# Altium schematic symbol library mpcie.SchLib: 3 symbols
Pins are listed as number, name and electrical type; pins without a type are passive.

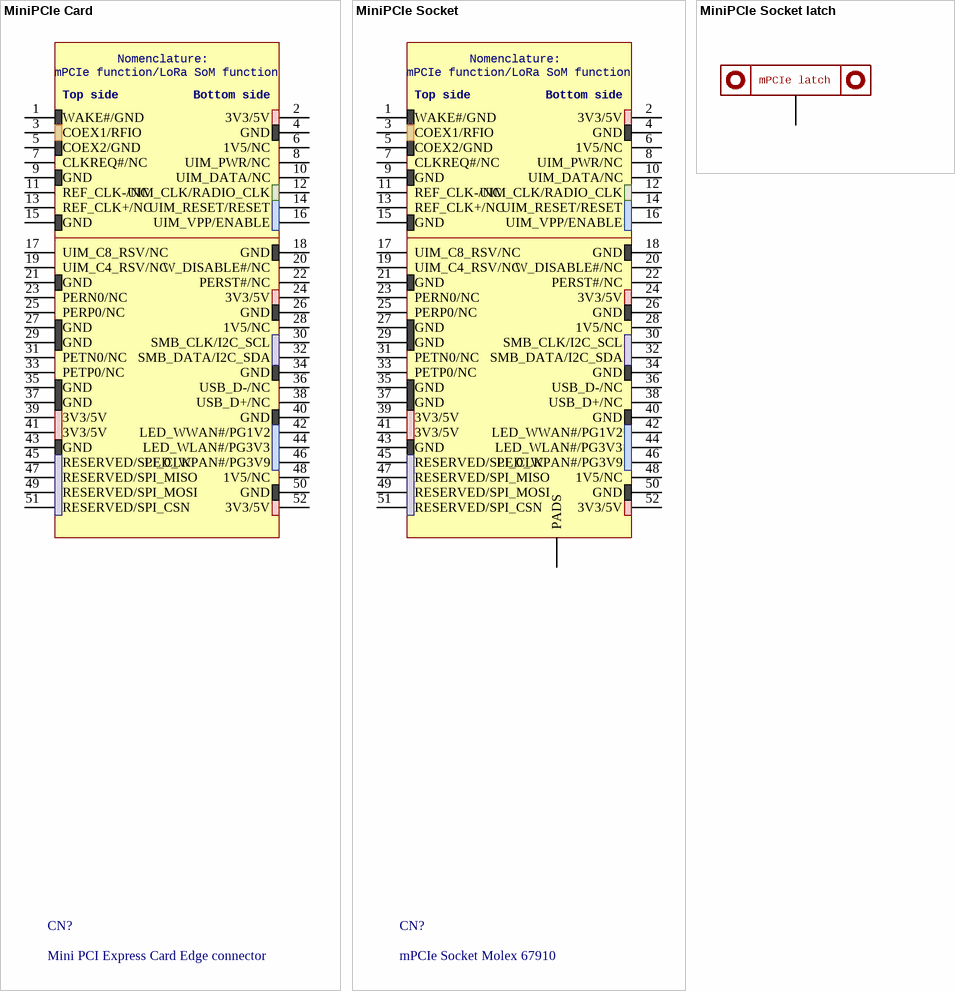
[diagram p0: symbols MiniPCIe Card to MiniPCIe Socket latch]

## MiniPCIe Card
designator CN?, comment Mini PCI Express Card Edge connector  (no BOM)
System: Connector
footprint Mini PCI Express
pins: 1 WAKE#/GND, 2 3V3/5V, 3 COEX1/RFIO, 4 GND (power), 5 COEX2/GND, 6 1V5/NC, 7 CLKREQ#/NC, 8 UIM_PWR/NC, 9 GND (power), 10 UIM_DATA/NC, 11 REF_CLK-/NC, 12 UIM_CLK/RADIO_CLK, 13 REF_CLK+/NC, 14 UIM_RESET/RESET, 15 GND (power), 16 UIM_VPP/ENABLE, 17 UIM_C8_RSV/NC, 18 GND (power), 19 UIM_C4_RSV/NC, 20 W_DISABLE#/NC, 21 GND (power), 22 PERST#/NC, 23 PERN0/NC, 24 3V3/5V, 25 PERP0/NC, 26 GND (power), 27 GND (power), 28 1V5/NC (power), 29 GND (power), 30 SMB_CLK/I2C_SCL, 31 PETN0/NC, 32 SMB_DATA/I2C_SDA, 33 PETP0/NC, 34 GND (power), 35 GND (power), 36 USB_D-/NC, 37 GND (power), 38 USB_D+/NC, 39 3V3/5V, 40 GND (power), 41 3V3/5V, 42 LED_WWAN#/PG1V2, 43 GND (power), 44 LED_WLAN#/PG3V3, 45 RESERVED/SPI_CLK, 46 LED_WPAN#/PG3V9, 47 RESERVED/SPI_MISO, 48 1V5/NC, 49 RESERVED/SPI_MOSI, 50 GND (power), 51 RESERVED/SPI_CSN, 52 3V3/5V
text: Nomenclature: / mPCIe function/LoRa SoM function; Top side; Bottom side

## MiniPCIe Socket
designator CN?, comment mPCIe Socket Molex 67910
System: Connector
footprint mPCIe Socket Molex 67910 (MPCIE Socket Molex 67910)
pins: 0 PADS, 1 WAKE#/GND, 2 3V3/5V, 3 COEX1/RFIO, 4 GND (power), 5 COEX2/GND, 6 1V5/NC, 7 CLKREQ#/NC, 8 UIM_PWR/NC, 9 GND (power), 10 UIM_DATA/NC, 11 REF_CLK-/NC, 12 UIM_CLK/RADIO_CLK, 13 REF_CLK+/NC, 14 UIM_RESET/RESET, 15 GND (power), 16 UIM_VPP/ENABLE, 17 UIM_C8_RSV/NC, 18 GND (power), 19 UIM_C4_RSV/NC, 20 W_DISABLE#/NC, 21 GND (power), 22 PERST#/NC, 23 PERN0/NC, 24 3V3/5V, 25 PERP0/NC, 26 GND (power), 27 GND (power), 28 1V5/NC (power), 29 GND (power), 30 SMB_CLK/I2C_SCL, 31 PETN0/NC, 32 SMB_DATA/I2C_SDA, 33 PETP0/NC, 34 GND (power), 35 GND (power), 36 USB_D-/NC, 37 GND (power), 38 USB_D+/NC, 39 3V3/5V, 40 GND (power), 41 3V3/5V, 42 LED_WWAN#/PG1V2, 43 GND (power), 44 LED_WLAN#/PG3V3, 45 RESERVED/SPI_CLK, 46 LED_WPAN#/PG3V9, 47 RESERVED/SPI_MISO, 48 1V5/NC, 49 RESERVED/SPI_MOSI, 50 GND (power), 51 RESERVED/SPI_CSN, 52 3V3/5V
text: Nomenclature: / mPCIe function/LoRa SoM function; Top side; Bottom side

## MiniPCIe Socket latch
designator CN?, comment mPCIe Latch Molex 48099  (value not drawn)
footprint MPCIE LATCH MOLEX 48099
pins: 1
text: mPCIe latch